# EAGLE library part MCP3008 (library Robot)
MCP3008 8-channel 10-bit A/D converter with SPI Interface
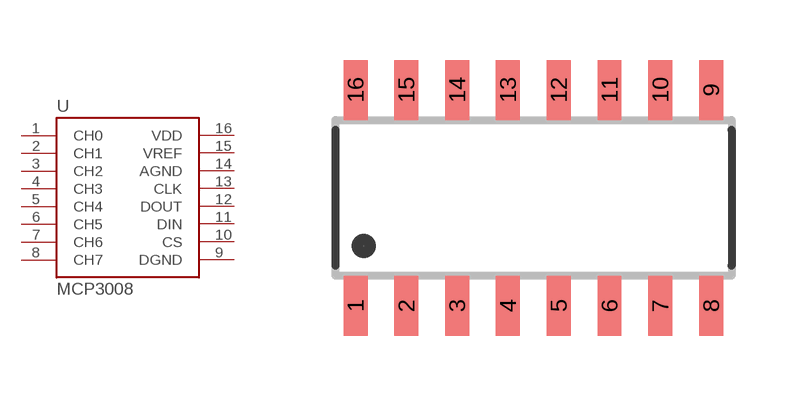
[diagram p13: symbol with the pads of SOIC-16; footprint SOIC-16]

Designator prefix -

## MCP3008-I/SL  [SOIC-16]
1  CH0  in
2  CH1  in
3  CH2  in
4  CH3  in
5  CH4  in
6  CH5  in
7  CH6  in
8  CH7  in
9  DGND  pwr
10  CS  in
11  DIN  in
12  DOUT  out
13  CLK  in
14  AGND  pwr
15  VREF  pwr
16  VDD  pwr

## Footprint SOIC-16 (pad centres in mm)
SOIC-16 16-Lead Plastic Small Outline (SL) - Narrow, 3.90 mm Body [SOIC] Land pattern taken from the MCP3008 datasheet.
smd 0.6 x 1.5: 1 0,-2.7; 2 1.27,-2.7; 3 2.54,-2.7; 4 3.81,-2.7; 5 5.08,-2.7; 6 6.35,-2.7; 7 7.62,-2.7; 8 8.89,-2.7; 9 8.89,2.7; 10 7.62,2.7; 11 6.35,2.7; 12 5.08,2.7; 13 3.81,2.7; 14 2.54,2.7; 15 1.27,2.7; 16 0,2.7